# EAGLE library part OPA1612AIDR (library OPA1612AIDR)
SoundPlus Audio Operational Amplifier with 1.1nV/Hz Noise, Low THD and Precision Source: Datasheet <http://www.ti.com/lit/ds/symlink/opa1612.pdf>
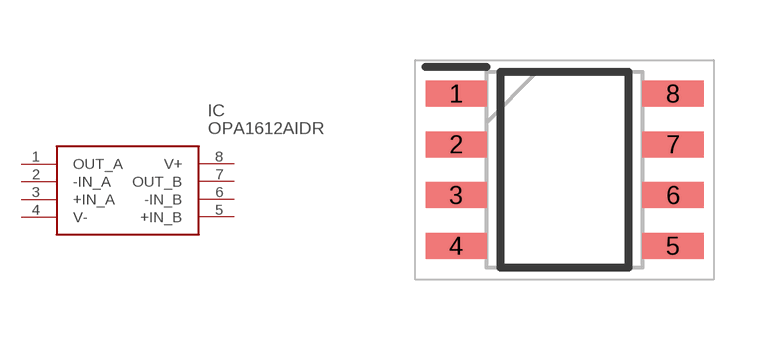
[diagram p0: symbol with the pads of SOIC127P600X175-8N; footprint SOIC127P600X175-8N]

Designator prefix IC

## OPA1612AIDR (Arrow_Part_Number: OPA1612AIDR; Arrow_Price-Stock: https://www.arrow.com/en/products/opa1612aidr/texas-instruments?region=nac; Description: SoundPlus Audio Operational Amplifier with 1.1nV/Hz Noise, Low THD and Precision; Height: 1.75mm; Manufacturer_Name: Texas Instruments; Manufacturer_Part_Number: OPA1612AIDR; Mouser_Part_Number: 595-OPA1612AIDR; Mouser_Price-Stock: https://www.mouser.co.uk/ProductDetail/Texas-Instruments/OPA1612AIDR?qs=6805eV47HhYG%252BLJtIoYNNw%3D%3D)  [SOIC127P600X175-8N]
1  OUT_A
2  -IN_A
3  +IN_A
4  V-
5  +IN_B
6  -IN_B
7  OUT_B
8  V+

## Footprint SOIC127P600X175-8N (pad centres in mm)
D0008A
smd 1.528 x 0.65: 1 -2.711,1.905; 2 -2.711,0.635; 3 -2.711,-0.635; 4 -2.711,-1.905; 5 2.711,-1.905; 6 2.711,-0.635; 7 2.711,0.635; 8 2.711,1.905